# Altium footprint library Mia_Training.PcbLib: 26 footprints (part 1 of 2)
Each footprint in its own frame and in the unit in brackets; x right, y up, seen from the top. Pads: shape width x height; smd on the part's side, far side on the other; paste and mask are expansions set on the pad; w line width, h text height; cw(c..) or ccw(c..) is an arc to the next point about the centre after c.
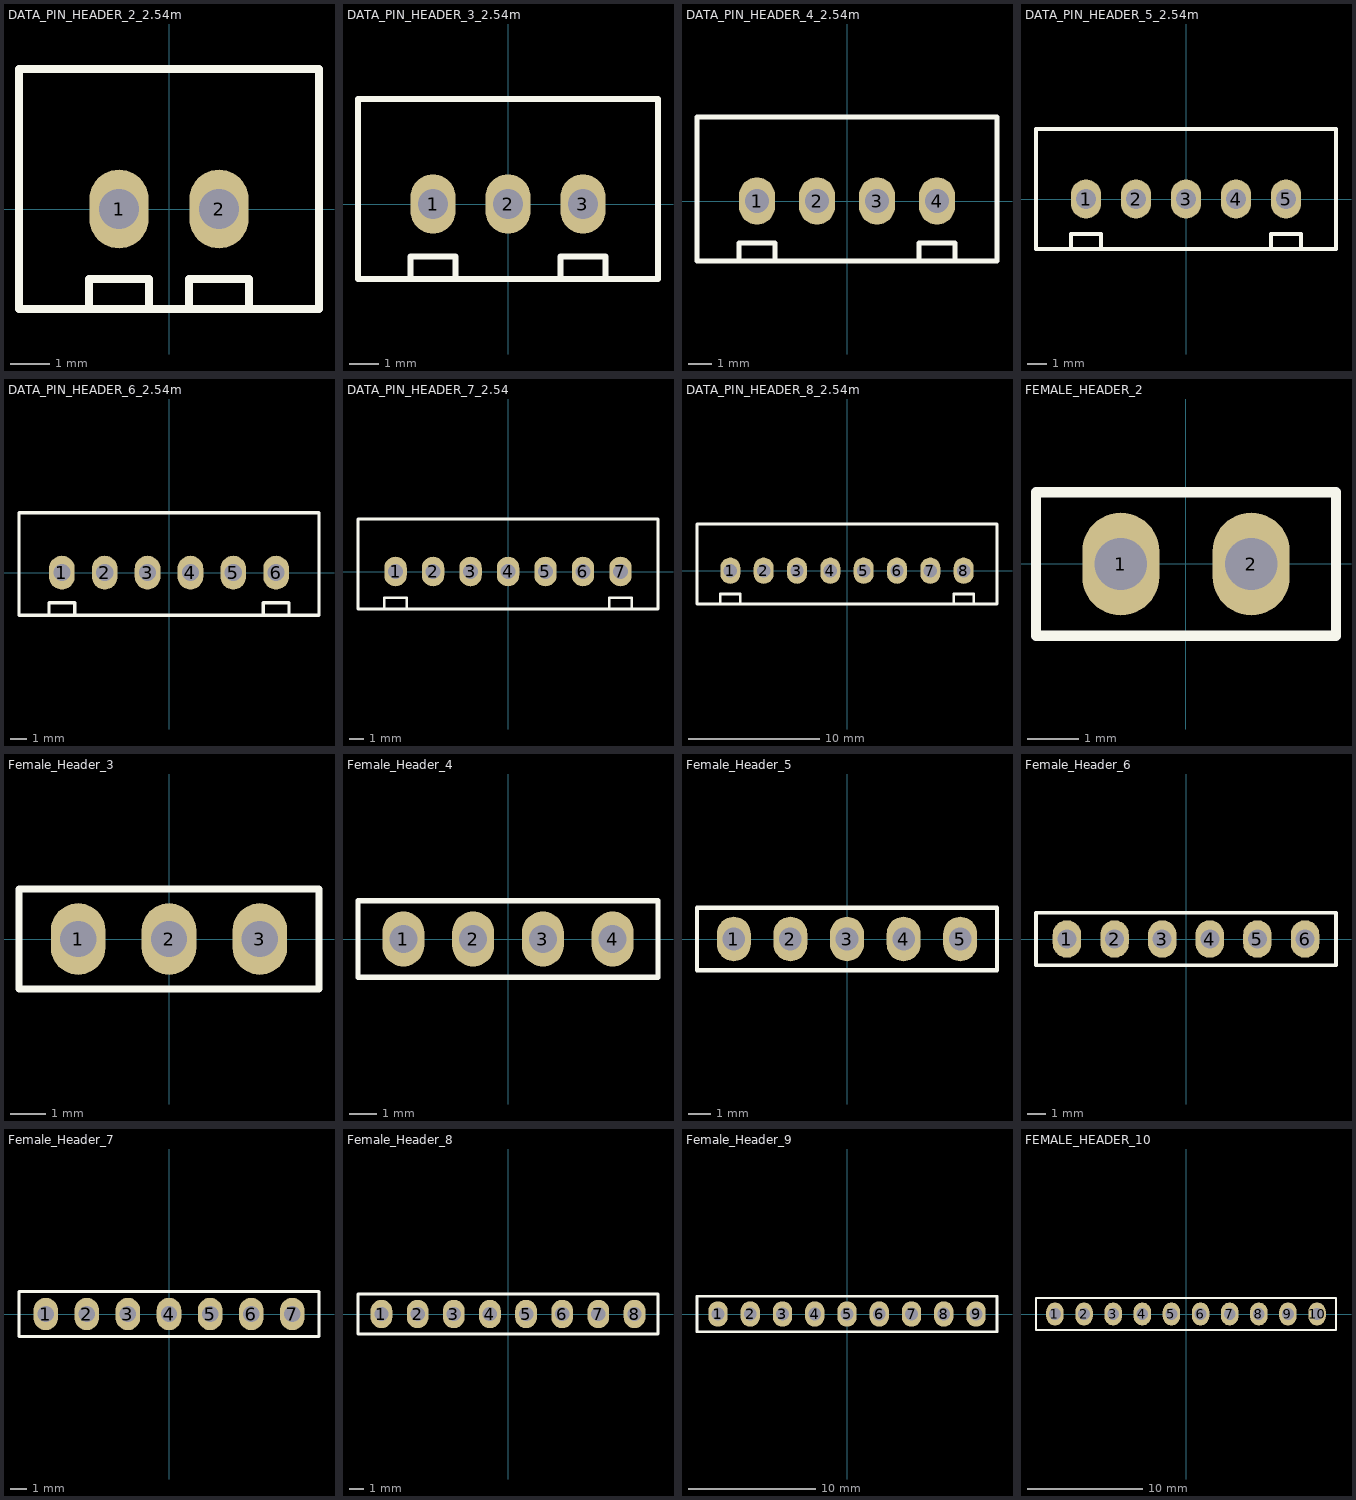
[diagram p0: the footprints below, top view; thin cyan lines are the x and y axes]

## DATA_PIN_HEADER_2_2.54m [mm]
pads (2):
  oval 1.5x2 hole 1.016: 1(-1.27,0) 2(1.27,0)
Top Overlay:
  lines w0.2: -2.032,-2.54 -2.032,-1.778 -0.508,-1.778 -0.508,-2.54 ; 0.508,-2.54 0.508,-1.778 2.032,-1.778 2.032,-2.54 ; -3.81,-2.54 -3.81,3.556 3.81,3.556 3.81,-2.54 -3.81,-2.54
3D body "B2B-XH-A-LF--SN---3DModel-STEP-269445.STEP": height 7.01, standoff -3.39, extent -3.59,-2.54 3.81,3.21

## DATA_PIN_HEADER_3_2.54m [mil]
pads (3):
  oval 60x78.74 hole 40: 1(-100,0) 2(0,0) 3(100,0)
Top Overlay:
  lines w7.87: -130,-100 -130,-70 -70,-70 -70,-100 ; 70,-100 70,-70 130,-70 130,-100 ; -200,-100 200,-100 200,140 -200,140 -200,-100
3D body "B3B-XH-A-LF--SN---3DModel-STEP-418109.STEP": height 276.09, standoff -133.36, extent -194.88,-93.5 194.88,132.87

## DATA_PIN_HEADER_4_2.54m [mil]
pads (4):
  oval 60x78.74 hole 40: 1(-150,0) 2(-50,0) 3(50,0) 4(150,0)
Top Overlay:
  lines w7.87: -180,-100 -180,-70 -120,-70 -120,-100 ; 120,-100 120,-70 180,-70 180,-100 ; -250,-100 -250,140 250,140 250,-100 -250,-100
3D body "B4B-XH-A-LF--SN---3DModel-STEP-418109.STEP": height 276.09, standoff -133.36, extent -244.09,-93.5 244.09,132.87

## DATA_PIN_HEADER_5_2.54m [mil]
pads (5):
  oval 60x78.74 hole 40: 1(-200,0) 2(-100,0) 3(0,0) 4(100,0) 5(200,0)
Top Overlay:
  lines w7.87: -230,-100 -230,-70 -170,-70 -170,-100 ; 170,-100 170,-70 230,-70 230,-100 ; -300,-100 300,-100 300,140 -300,140 -300,-100
3D body "B5B-XH-A-LF--SN---3DModel-STEP-418109.STEP": height 276.09, standoff -133.36, extent -293.31,-93.5 293.31,132.87

## DATA_PIN_HEADER_6_2.54m [mil]
pads (6):
  oval 60x78.74 hole 40: 1(-250,0) 2(-150,0) 3(-50,0) 4(50,0) 5(150,0) 6(250,0)
Top Overlay:
  lines w7.87: -280,-100 -280,-70 -220,-70 -220,-100 ; 220,-100 220,-70 280,-70 280,-100 ; -350,-100 -350,140 350,140 350,-100 -350,-100
3D body "B6B-XH-A-LF--SN---3DModel-STEP-418109.STEP": height 276.09, standoff -133.36, extent -342.52,-93.5 342.52,132.87

## DATA_PIN_HEADER_7_2.54 [mil]
pads (7):
  oval 60x78.74 hole 40: 1(-300,0) 2(-200,0) 3(-100,0) 4(0,0) 5(100,0) 6(200,0) 7(300,0)
Top Overlay:
  lines w7.87: -330,-100 -330,-70 -270,-70 -270,-100 ; 270,-100 270,-70 330,-70 330,-100 ; -400,-100 -400,140 400,140 400,-100 -400,-100
3D body "B7B-XH-A-LF--SN---3DModel-STEP-418109.STEP": height 276.09, standoff -133.36, extent -391.73,-93.5 391.73,132.87

## DATA_PIN_HEADER_8_2.54m [mil]
pads (8):
  oval 60x78.74 hole 40: 1(-350,0) 2(-250,0) 3(-150,0) 4(-50,0) 5(50,0) 6(150,0) 7(250,0) 8(350,0)
Top Overlay:
  lines w7.87: -380,-100 -380,-70 -320,-70 -320,-100 ; 320,-100 320,-70 380,-70 380,-100 ; -450,-100 -450,140 450,140 450,-100 -450,-100
3D body "B8B-XH-A-LF--SN---3DModel-STEP-418109.STEP": height 276.09, standoff -133.36, extent -440.94,-93.5 440.94,132.87

## FEMALE_HEADER_2 [mm]
pads (2):
  oval 1.5x2 hole 1.016: 1(-1.269,-0.004) 2(1.271,-0.004)
Top Overlay:
  lines w0.2: -2.92,-1.401 -2.92,1.393 2.922,1.393 2.922,-1.401 -2.92,-1.401
3D body "PPTC021LFBN-RC--3DModel-STEP-56544.STEP": height 8.52, standoff -3.19, extent -2.793,-1.274 2.795,1.266

## Female_Header_3 [mil]
pads (3):
  oval 60x78.74 hole 40: 1(-100,0) 2(0,0) 3(100,0)
Top Overlay:
  lines w7.87: -165,-55 -165,55 165,55 165,-55 -165,-55
3D body "PPTC031LFBN-RC--3DModel-STEP-56544.STEP": height 335.5, standoff -125.5, extent -160,-50 160,50

## Female_Header_4 [mil]
pads (4):
  oval 60x78.74 hole 40: 1(-150,0) 2(-50,0) 3(50,0) 4(150,0)
Top Overlay:
  lines w7.87: -215,-55 215,-55 215,55 -215,55 -215,-55
3D body "PPTC041LFBN-RC--3DModel-STEP-56544.STEP": height 335.5, standoff -125.5, extent -210,-50 210,50

## Female_Header_5 [mil]
pads (5):
  oval 60x78.74 hole 40: 1(-200,0) 2(-100,0) 3(0,0) 4(100,0) 5(200,0)
Top Overlay:
  lines w7.87: -265,-55 265,-55 265,55 -265,55 -265,-55
3D body "PPTC051LFBN-RC--3DModel-STEP-56544.STEP": height 335.5, standoff -125.5, extent -260,-50 260,50

## Female_Header_6 [mil]
pads (6):
  oval 60x78.74 hole 40: 1(-250,0) 2(-150,0) 3(-50,0) 4(50,0) 5(150,0) 6(250,0)
Top Overlay:
  lines w7.87: -315,-55 315,-55 315,55 -315,55 -315,-55
3D body "PPTC061LFBN-RC--3DModel-STEP-56544.STEP": height 335.5, standoff -125.5, extent -310,-50 310,50

## Female_Header_7 [mil]
pads (7):
  oval 60x78.74 hole 40: 1(-300,0) 2(-200,0) 3(-100,0) 4(0,0) 5(100,0) 6(200,0) 7(300,0)
Top Overlay:
  lines w7.87: -365,-55 365,-55 365,55 -365,55 -365,-55
3D body "PPTC071LFBN-RC--3DModel-STEP-56544.STEP": height 335.5, standoff -125.5, extent -360,-50 360,50

## Female_Header_8 [mil]
pads (8):
  oval 60x78.74 hole 40: 1(-350,0) 2(-250,0) 3(-150,0) 4(-50,0) 5(50,0) 6(150,0) 7(250,0) 8(350,0)
Top Overlay:
  lines w7.87: -415,-55 -415,55 415,55 415,-55 -415,-55
3D body "PPTC081LFBN-RC--3DModel-STEP-56544.STEP": height 335.5, standoff -125.5, extent -410,-50 410,50

## Female_Header_9 [mil]
pads (9):
  oval 60x78.74 hole 40: 1(-400,0) 2(-300,0) 3(-200,0) 4(-100,0) 5(0,0) 6(100,0) 7(200,0) 8(300,0) 9(400,0)
Top Overlay:
  lines w7.87: -465,-55 -465,55 465,55 465,-55 -465,-55
3D body "PPTC091LFBN-RC--3DModel-STEP-56544.STEP": height 335.5, standoff -125.5, extent -460,-50 460,50

## FEMALE_HEADER_10 [mil]
pads (10):
  oval 60x78.74 hole 40: 1(-450,0) 2(-350,0) 3(-250,0) 4(-150,0) 5(-50,0) 6(50,0) 7(150,0) 8(250,0) 9(350,0) 10(450,0)
Top Overlay:
  lines w7.87: -515,-55 -515,55 515,55 515,-55 -515,-55
3D body "PPTC101LFBN-RC--3DModel-STEP-56544.STEP": height 335.5, standoff -125.5, extent -510,-50 510,50